# Altium footprint library PcbLib1.PcbLib: 5 footprints
Each footprint in its own frame and in the unit in brackets; x right, y up, seen from the top. Pads: shape width x height; smd on the part's side, far side on the other; paste and mask are expansions set on the pad; w line width, h text height; cw(c..) or ccw(c..) is an arc to the next point about the centre after c.
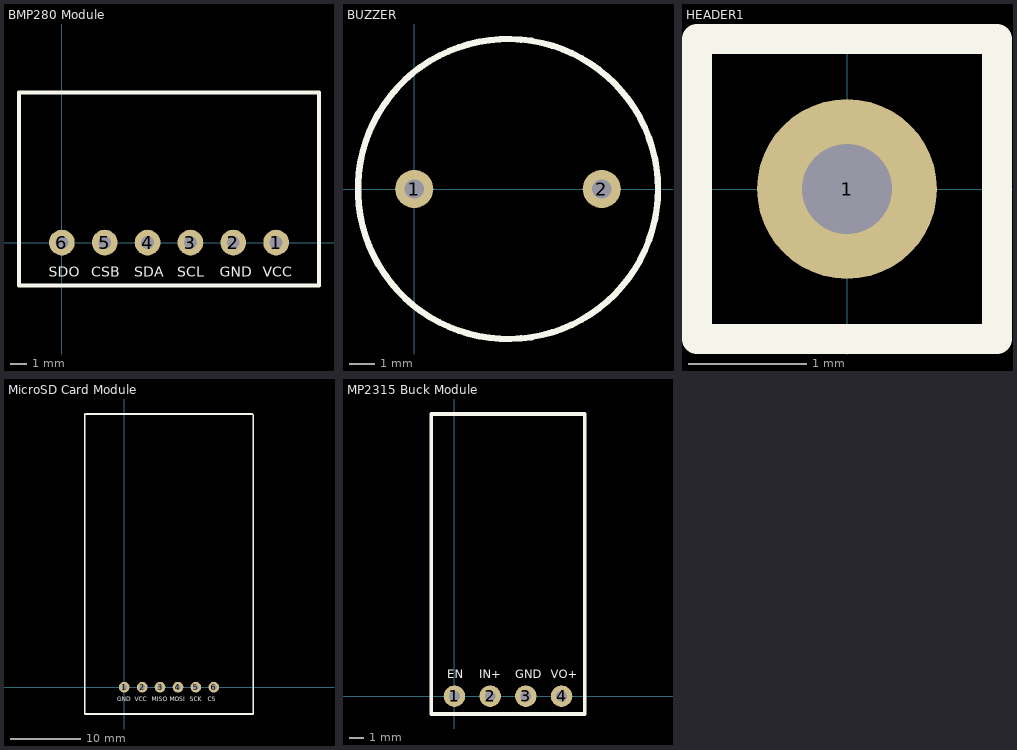
[diagram p0: the footprints below, top view; thin cyan lines are the x and y axes]

## BMP280 Module [mil]
pads (6):
  round 60 hole 30: 1(500,0) 2(400,0) 3(300,0) 4(200,0) 5(100,0) 6(0,0)
Top Overlay:
  lines w10: -100,-100 -100,350 600,350 600,-100 -100,-100
  text "SDO" at -31,-80 h24
  text "CSB" at 69,-80 h24
  text "SDA" at 169,-80 h24
  text "SCL" at 269,-80 h24
  text "GND" at 369,-80 h24
  text "VCC" at 469,-80 h24

## BUZZER [mil]
pads (2):
  round 60 hole 30: 1(0,0) 2(295.28,0)
Top Overlay:
  circle w10: c147.64,0 r236.22

## HEADER1 [mil]
pads (1):
  round 60 hole 30: 1(0,0)
Top Overlay:
  lines w10: -50,-50 50,-50 50,50 -50,50 -50,-50

## MicroSD Card Module [mil]
pads (6):
  round 60 hole 30: 1(0,0) 2(100,0) 3(200,0) 4(300,0) 5(400,0) 6(500,0)
Top Overlay:
  lines w10: -220,1525 -220,-150 720,-150 720,1520 ; -215,1525 715,1525
  text "CS" at 465,-80 h24
  text "SCK" at 365,-80 h24
  text "MOSI" at 255,-80 h24
  text "MISO" at 155,-80 h24
  text "VCC" at 60,-80 h24
  text "GND" at -40,-80 h24

## MP2315 Buck Module [mil]
pads (4):
  round 60 hole 30: 1(0,0) 2(100,0) 3(200,0) 4(300,0)
Top Overlay:
  lines w10: -65,-50 365,-50 365,790 -65,790 -65,-50
  text "EN" at -20,50 h24
  text "IN+" at 70,50 h24
  text "GND" at 170,50 h24
  text "VO+" at 270,50 h24